# Altium footprint library MCKPM-G1201A-K4037.PcbLib: 2 footprints
Each footprint in its own frame and in the unit in brackets; x right, y up, seen from the top. Pads: shape width x height; smd on the part's side, far side on the other; paste and mask are expansions set on the pad; w line width, h text height; cw(c..) or ccw(c..) is an arc to the next point about the centre after c.
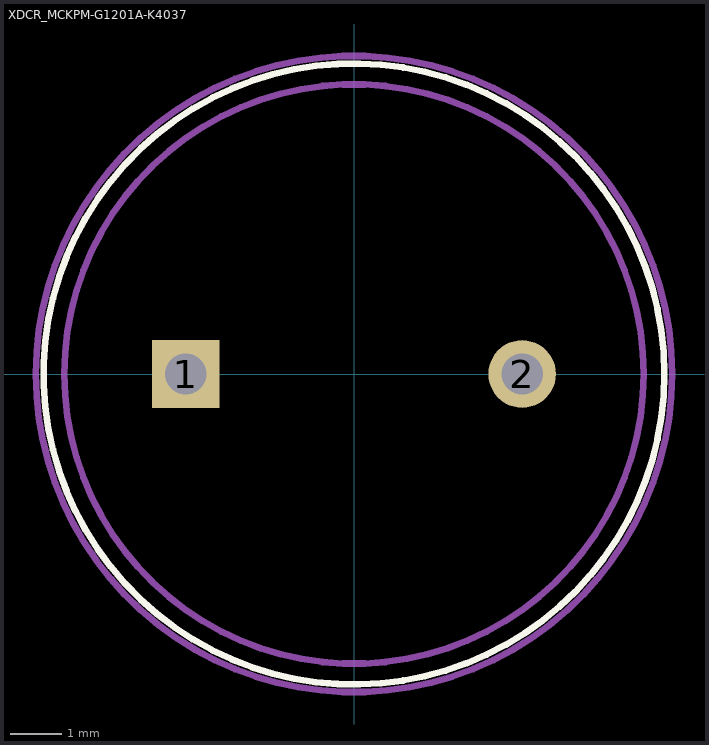
[diagram p0: the footprints below, top view; thin cyan lines are the x and y axes]

## PCBComponent_1 [mm]

## XDCR_MCKPM-G1201A-K4037 [mm]
pads (2):
  rect 1.308x1.308 hole 0.8: 1(-3.25,0)
  round 1.308 hole 0.8: 2(3.25,0)
Top Overlay:
  circle w0.127: c0,0 r6
Mechanical 1:
  circle w0.127: c0,0 r6.15
  circle w0.127: c0,0 r5.6